# Altium footprint library 0022232021.PcbLib: 1 footprints
Each footprint in its own frame and in the unit in brackets; x right, y up, seen from the top. Pads: shape width x height; smd on the part's side, far side on the other; paste and mask are expansions set on the pad; w line width, h text height; cw(c..) or ccw(c..) is an arc to the next point about the centre after c.
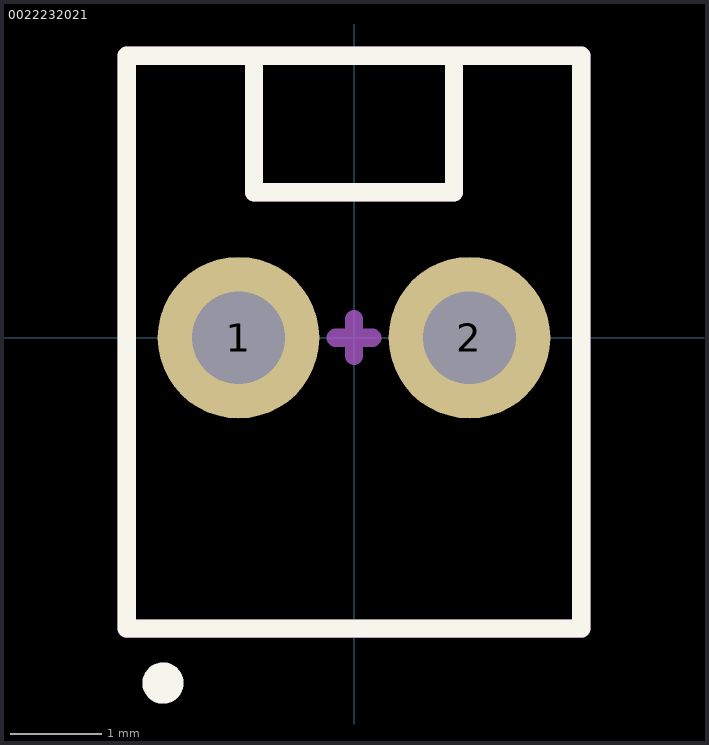
[diagram p0: the footprint, top view; thin cyan lines are the x and y axes]

## 0022232021 [mil]
height 322.05
pads (2):
  round 70 hole 40.16: 1(-50,0) 2(50,0)
Top Overlay:
  circle w10: c-82.68,-149.61 r3.94
  lines w7.87: -43.31,122.05 -43.31,62.99 43.31,62.99 43.31,122.05 ; -98.43,-125.98 -98.43,122.05 98.43,122.05 98.43,-125.98 -98.43,-125.98
Mechanical 13:
  lines w8: -43.31,122.05 -43.31,62.99 43.31,62.99 43.31,122.05 ; -98.43,-125.98 98.43,-125.98 98.43,122.05 -98.43,122.05 -98.43,-125.98
Mechanical 15:
  lines w8: -7.87,0 7.87,0 0,0 ; 0,-3.94 0,-7.87 0,0 ; 0,7.87 0,0
3D body "0022232021.stp": height 420.49, standoff -139.51, extent -97,-128 97,122